# EAGLE library part 6N137 (library lite-on)
OPTOISO 5KV OPEN COLLECTOR
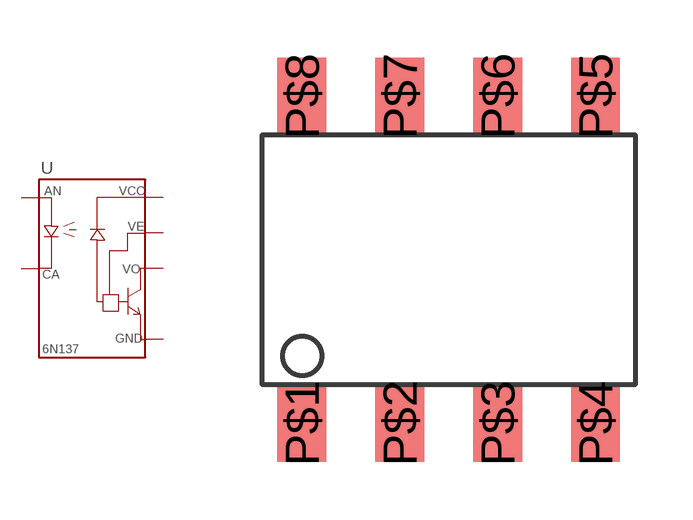
[diagram p0: symbol with the pads of BESOP-8; footprint BESOP-8]

Designator prefix U

## 6N137 (DIGIKEY: 160-1793-ND; P1I: o)  [BESOP-8]
P$2  AN
P$3  CATH
P$5  GND
P$6  VO
P$7  VE
P$8  VCC

## Footprint BESOP-8 (pad centres in mm)
smd 1.27 x 2: P$1 -3.81,-4.25; P$2 -1.27,-4.25; P$3 1.27,-4.25; P$4 3.81,-4.25; P$5 3.81,4.25; P$6 1.27,4.25; P$7 -1.27,4.25; P$8 -3.81,4.25